# EAGLE library part TS3A5018 (library PP_AnalogIC)
Manufacturer Part #: TS3A5018 Manufacturer: Texas Instruments Description: Analog Switch ICs 10-Ohm Quad SPDT Analog Switch
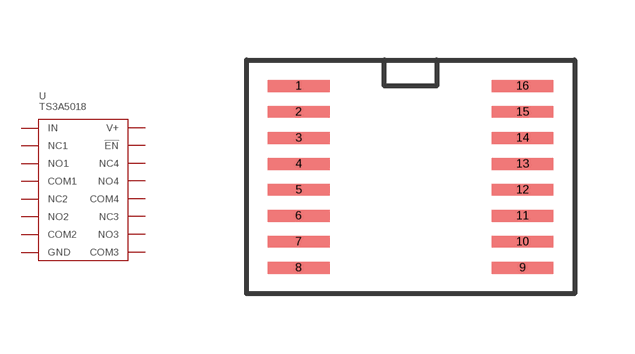
[diagram p1: symbol with the pads of TS3A5018_TTSOP-16; footprint TS3A5018_TTSOP-16]

Designator prefix U

## TS3A5018PWR (POPULATE: 1)  [TS3A5018_TTSOP-16]
1  IN
2  NC1
3  NO1
4  COM1
5  NC2
6  NO2
7  COM2
8  GND
9  COM3
10  NO3
11  NC3
12  COM4
13  NO4
14  NC4
15  EN'
16  V+

## Footprint TS3A5018_TTSOP-16 (pad centres in mm)
smd 1.55 x 0.3: 1 -2.8,2.275; 2 -2.8,1.625; 3 -2.8,0.975; 4 -2.8,0.325; 5 -2.8,-0.325; 6 -2.8,-0.975; 7 -2.8,-1.625; 8 -2.8,-2.275; 9 2.8,-2.275; 10 2.8,-1.625; 11 2.8,-0.975; 12 2.8,-0.325; 13 2.8,0.325; 14 2.8,0.975; 15 2.8,1.625; 16 2.8,2.275